# Altium schematic symbol library FPGA_PMU_lib.SchLib: 19 symbols
Pins are listed as number, name and electrical type; pins without a type are passive.

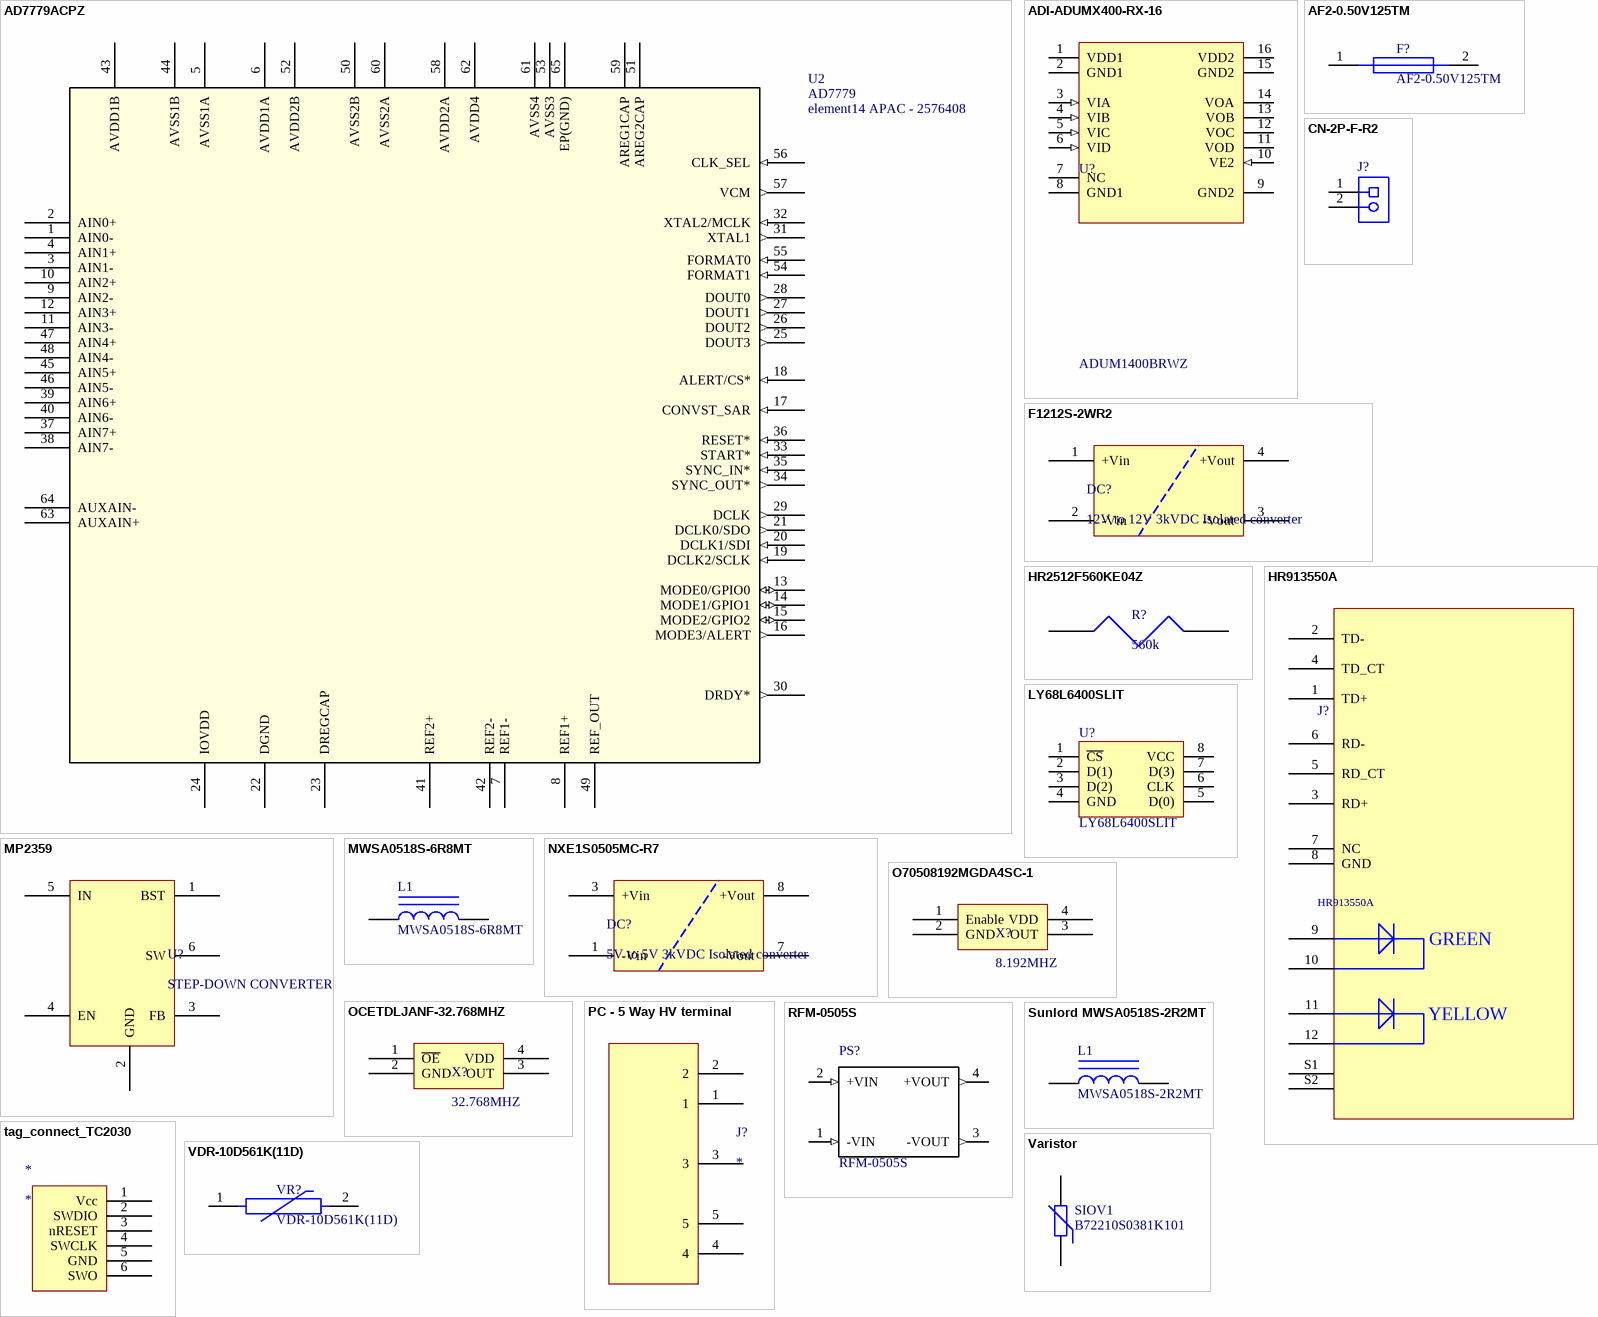
[diagram p0: symbols AD7779ACPZ to VDR-10D561K(11D)]

## AD7779ACPZ
designator U2, comment AD7779  Supplier Part Number 1: element14 APAC - 2576408
ADC - 8 Channel; Supplier 1: Octopart
footprint CP_64_15
footprint CP_64_15
pins: 1 AIN0-, 2 AIN0+, 3 AIN1-, 4 AIN1+, 5 AVSS1A, 6 AVDD1A, 7 REF1-, 8 REF1+, 9 AIN2-, 10 AIN2+, 11 AIN3-, 12 AIN3+, 13 MODE0/GPIO0 (io), 14 MODE1/GPIO1 (io), 15 MODE2/GPIO2 (io), 16 MODE3/ALERT (out), 17 CONVST_SAR (in), 18 ALERT/CS* (in), 19 DCLK2/SCLK (in), 20 DCLK1/SDI (in), 21 DCLK0/SDO (out), 22 DGND, 23 DREGCAP, 24 IOVDD, 25 DOUT3 (out), 26 DOUT2 (out), 27 DOUT1 (out), 28 DOUT0 (out), 29 DCLK (out), 30 DRDY* (out), 31 XTAL1 (out), 32 XTAL2/MCLK (in), 33 START* (in), 34 SYNC_OUT* (out), 35 SYNC_IN* (in), 36 RESET* (in), 37 AIN7+, 38 AIN7-, 39 AIN6+, 40 AIN6-, 41 REF2+, 42 REF2-, 43 AVDD1B, 44 AVSS1B, 45 AIN5+, 46 AIN5-, 47 AIN4+, 48 AIN4-, 49 REF_OUT, 50 AVSS2B, 51 AREG2CAP, 52 AVDD2B, 53 AVSS3, 54 FORMAT1 (in), 55 FORMAT0 (in), 56 CLK_SEL (in), 57 VCM (out), 58 AVDD2A, 59 AREG1CAP, 60 AVSS2A, 61 AVSS4, 62 AVDD4, 63 AUXAIN+, 64 AUXAIN-, 65 EP(GND)

## ADI-ADUMX400-RX-16
designator U?, comment ADUM1400BRWZ
Quad Channel Digital Isolator, 2.5 KV rms Insulation Rating, 10 Mbps Data Rate, 50 ns Delay, Industrial, 16-pin SOIC (RW-16), Tube; Manufacturer: Analog Devices; Max Data Rate: 10Mbps; Insulation Rating (kVrms): 2.5; Mounting Technology: Surface Mount; ComponentLink5Description: URL Link2; PackageReference: RW-16; ComponentLink3Description: Package Specification; Code_JEDEC: MS-013-AA; PartNumber: ADUM1400BRWZ; DatasheetVersion: Rev. H; ComponentLink2Description: Datasheet; ComponentLink4Description: URL Link1; ComponentLink1URL: http://www.analog.com/en/index.html; PackageVersion: 032707-B, 03/2007; Max Operating Temp (degreesC): 125; PackageDescription: 16-Pin Standard Small Outline Package, Body 10.3 x 7.5 mm, Pitch 1.27 mm; ComponentLink1Description: Manufacturer URL; ComponentLink5URL: Reference Circuit:http://www.analog.com/en/interface-isolation/digital-isolators/adum1400/products/product.html#product-recommendations; ComponentLink2URL: http://www.analog.com/static/imported-files/data_sheets/ADuM1400_1401_1402.pdf; ComponentLink4URL: Product URL:http://www.analog.com/en/interface-isolation/digital-isolators/adum1400/products/product.html; ComponentLink3URL: http://www.analog.com/static/imported-files/packages/PKG_PDF/SOIC_WIDE%20%28RW%29/RW_16.pdf; SuppliersPartNumber: C72910
footprint ADI-RW-16_L (SOIC, 16-Leads, Body 10.3x7.5mm, Pitch 1.27mm, IPC High Density)
footprint ADI-RW-16_N (SOIC, 16-Leads, Body 10.3x7.5mm, Pitch 1.27mm, IPC Medium Density)
footprint ADI-RW-16_M (SOIC, 16-Leads, Body 10.3x7.5mm, Pitch 1.27mm, IPC Low Density)
pins: 1 VDD1 (power) "Supply Voltage for Isolator Side 1.", 2 GND1 (power) "Ground 1. Ground reference for Isolator Side 1.", 3 VIA (in) "Logic Input A.", 4 VIB (in) "Logic Input B.", 5 VIC (in) "Logic Input C.", 6 VID (in) "Logic Input D.", 7 NC "No Connect.", 8 GND1 (power) "Ground 1. Ground reference for Isolator Side 1.", 9 GND2 (power) "Ground 2. Ground reference for Isolator Side 2.", 10 VE2 (in) "Output Enable 2. Active high logic input. VOA, VOB, VOC, and VOD outputs are enabled when VE2 is high or disconnected. VOA, VOB, VOC, and VOD outputs are disabled when VE2 is low. In noisy environments, connecting VE2 to an (See Datasheet)", 11 VOD (hiz) "Logic Output D.", 12 VOC (hiz) "Logic Output C.", 13 VOB (hiz) "Logic Output B.", 14 VOA (hiz) "Logic Output A.", 15 GND2 (power) "Ground 2. Ground reference for Isolator Side 2.", 16 VDD2 (power) "Supply Voltage for Isolator Side 2."

## AF2-0.50V125TM
designator F?
Chip Fuse Fast Blow 500mA 231mΩ 100A AC，50A DC 0.1 2410 Surface Mount Fuses RoHS; SuppliersPartNo: C311009; JLCPCB: NO
footprint 2410 Fuse
pins: 1, 2

## CN-2P-F-R2
designator J?
PCB Terminal Block, 13.5 A, 400 V, 2-Pin THD, RoHS, Bulk; PartNumber: 1729128; Manufacturer: Phoenix Contact; Package Version: 03/2015; No. of Rows: 1; Pitch: 5.08mm; No. of Positions: 2; Voltage Rating: 400V; Current Rating: 13500mA; Manufacturer URL: http://www.phoenixcontact.com/; Datasheet URL: https://datasheet.ciiva.com/16046/1729128-16046181.pdf; RoHS: TRUE; Package URL: https://www.phoenixcontact.com/online/portal/pi/pxc/product_detail_page/!ut/p/b1/3VdJjqNKFDxLH8AFycySyWY2ozFsEPOMMQaDOX1XedGL_1Vdm5YXJleknhSKeBkvI6EA8ncAo3AYoDhBQGco6KN7VURTdemj9us_IEKEZo_YHiPAEWEFmDGOHMORkqKYCORBZxgL7ZoaZYcbFFUZ3fqxSY6GOuxydWUuHqz1ynmMFygu583Bob0Ewr6Sd_l-5m-kAueHiB0jpRwZwe58wwtkpxtMYd_LmGcDRU02dRNEyWt6Y2ti5pSyJ_reIkzIulrqApdnbT11V5jnCKbYNCvhEM1MCpPByat_X379-iThf08CI5GfOPqfBeS3BRoBOdD55AKVv0iLwCMq-2BrzXWSGRH7pUGD9uwXQjiph3xL0DKQwdGa0JImiIOmBNOestqgwTHSSs2oOep-78apyXQBvNi8ZLaFjvjWvcaUEBu0MC6Wbe-d6mB0FAebo2lUWinqYaZs5DAYzV0RP9yitUjnGJ0iI9xhZkT42OCQNUJJhkgWINNQLP2JFP6OpMg3JCVg70jqHT0lvKOnhHf0lPuOnnLf0VPuWx6_dxwUIvwk5WMkT0kLL1mh61l2yZVSzG3pYV_bqo-mj6uMKwKwdnnW8Jh5RTOJzMOA5c-eJDaZQw4mTMPH02PvS_ZAqNVjVTo2WyYLkwH_KU1mmmG5kjRhDqPXLwwVHvVOjCM60-fpXvTDfMGW1PVFVS1r4e4yVDk4ZdNbkUHvqPqQSeian4UD39fNKmachqdJ1NJbyk8rXT9mXTvPk3oE5meulKGgiruPJek-4I9hTT6G8ZLOyRSm2RRVbThERQad5OS28hdt4YW4vG0stgYYzsWsK4_7y6DZMjJSCqri1kyiZR5vD7pwIrNR7QwPHTcLTI5qT7eRlpHrdGiupYlqQDJ7zy_CND8fWWBoLRXxk1RVcXiBQwbTD4Xi7KL-FuO94t9xaqweXzH; Package Description: 2-Pin Through Hole Device, Body 8.1 x 10.16 mm, Pitch 5.08 mm; Datasheet Version: 12/2013; Mounting Technology: ThroughHole; Orientation: Horizontal; Package Reference: 1729128-2; Packing: Bulk; JLC: NO
footprint PHOE-1729128-2_V (Receptacle, 2-Leads, Body 8.1x10.16mm, Pitch 5.08mm)
pins: 1, 2

## F1212S-2WR2
designator DC?, comment 12V to 12V 3kVDC Isolated converter
Isolated DC-DC Converters F_S-2W2R Series -- 2Watt
footprint SPI-7 DC DC
pins: 1 +Vin, 2 -Vin, 3 -Vout, 4 +Vout

## HR2512F560KE04Z
designator R?, comment 560k
HIGH VOLTAGE RESISTOR 560KOHMS ±1% 1W 2512 ROHS; Value: 560k; Supplier: LCSC; SuppliersPartNumber: C175529
footprint 2512_HV_RES
pins: 1, 2

## HR913550A
designator J?
RJ45 12 1 Green - Yellow Through Hole Ethernet Connectors/Modular Connectors (RJ45 RJ11) RoHS; JLCPCB: NO; SuppliersPartNumber: C163507
footprint RJ45 MagJack (Modular Jack Horizontal Shielded 8P8C Tab Down)
pins: 1 TD+, 2 TD-, 3 RD+, 4 TD_CT, 5 RD_CT, 6 RD-, 7 NC, 8 GND, 9, 10, 11, 12, S1, S2
text: GREEN; YELLOW

## LY68L6400SLIT
designator U?
Pseudo SRAM; ComponentLink1Description: 供应商链接; ComponentLink1URL: https://item.szlcsc.com/98729.html; Package: SOIC-8; Supplier: LC; SuppliersPartNumber: C261881
footprint SOIC-8_208mil
pins: 1 ~{CS}, 2 D(1), 3 D(2), 4 GND, 5 D(0), 6 CLK, 7 D(3), 8 VCC

## MP2359
designator U?, comment STEP-DOWN CONVERTER
1.2A, 24V, 1.4MHz STEP-DOWN CONVERTER IN A TSOT23-6; SuppliersPartNumber: C14259; ClassName: PowerPads
footprint *TSOT-23_S6
pins: 1 BST, 2 GND, 3 FB, 4 EN, 5 IN, 6 SW

## MWSA0518S-6R8MT
designator L1
POWER INDUCTORS SMD,5.2X5.4X1.8MM ROHS; Value: 6.8uH; Current Rating: 5.0A; Package: 5.2X5.4X1.8MM; Supplier: LC; SuppliersPartNumber: C408348; ClassName: PowerPads
footprint MWSA0518
pins: 1 (power), 2 (power)

## NXE1S0505MC-R7
designator DC?, comment 5V to 5V 3kVDC Isolated converter
NXE1 1W Isolated DC-DC Converter Surface Mount, Voltage in 4.5 → 5.5 V dc
footprint NXE1S0505MC-R7 (Murata DC DC)
pins: 1 -Vin, 3 +Vin, 7 -Vout, 8 +Vout

## O70508192MGDA4SC-1
designator X?, comment 8.192MHZ
SMD OSCILLATORS(XO) 8.192MHZ ±20PPM SMD-7050_4P ROHS; SuppliersPartNumber: C70640
footprint 7050 Clock
pins: 1 Enable, 2 GND, 3 OUT, 4 VDD

## OCETDLJANF-32.768MHZ
designator X?, comment 32.768MHZ
SMD OSCILLATORS(XO) 32.768MHZ ±25PPM SMD-7050_4P ROHS; SuppliersPartNumber: C70525
footprint 7050 Clock
pins: 1 ~{OE}, 2 GND, 3 OUT, 4 VDD

## PC - 5 Way HV terminal
designator J?
TDPT 4/ 5-SC-6,35-ZB - 1017517
footprint 1017517 (PCB terminal block)
pins: 1, 2, 3, 4, 5

## RFM-0505S
designator PS?
1W DC/DC-Converter 'ECONOLINE' SIP4 1kV unreg; MF: Recom Power; Price: None; MP: RFM-0505S; SnapEDA_Link: https://www.snapeda.com/parts/RFM-0505S/Recom%20Power/view-part/2771046/?ref=snap; Availability: Unavailable; Package: SIP-4 Recom Power; Value: *
footprint *CONV_RFM-0505S
pins: 1 -VIN (in), 2 +VIN (in), 3 -VOUT (out), 4 +VOUT (out)

## Sunlord MWSA0518S-2R2MT
designator L1, comment MWSA0518S-2R2MT
POWER INDUCTORS SMD,5.2X5.4X1.8MM ROHS; Value: 2.2uH; Current Rating: 5.0A; Package: 5.2X5.4X1.8MM; Supplier: LC; SuppliersPartNumber: C408345
footprint MWSA0518
pins: 1 (power), 2 (power)

## tag_connect_TC2030
designator *
footprint TC2030-MCP-NL
pins: 1 Vcc, 2 SWDIO, 3 nRESET, 4 SWCLK, 5 GND, 6 SWO

## Varistor
designator SIOV1, comment B72210S0381K101
Varistor (Voltage-Sensitive Resistor); Manufacturer: EPCOS; Value: 385/505V; Voltage Rating VAC: 385V; Voltage Rating VDC: 505V; Supplier Part Number: 1004398; Supplier: Element14; Manufacturer Part Number: B72210S0381K101; JLC: NO
footprint Varistor (Varistor (Voltage-Sensitive Resistor))
pins: 1, 2

## VDR-10D561K(11D)
designator VR?
460V 920V 2.5KA 560V Through Hole Varistors RoHS; SuppliersPartNo: C283943; JLCPCB: NO
footprint VDR-10D561K(11D)
pins: 1, 2